# EAGLE library part F-1X08- (library con-headers-jp)
FEMALE HEADER
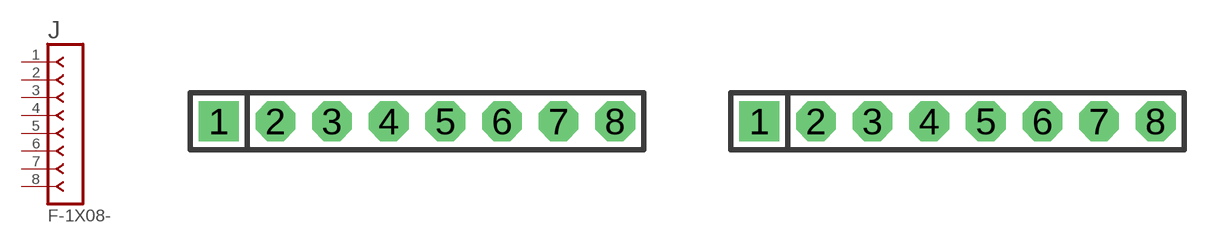
[diagram p22: symbol with the pads of SIP-100-08-40; footprints SIP-100-08-40, SIP-100-08-32]

Designator prefix J

## F-1X08-SIP-100-40  [SIP-100-08-40]
1  1  pas
2  2  pas
3  3  pas
4  4  pas
5  5  pas
6  6  pas
7  7  pas
8  8  pas

## F-1X08-SIP-100-32  [SIP-100-08-32]
Pads as for SIP-100-08-40

## F-1X08-SIP-100-32Y  [SIP-100-08-32Y]
Pads as for SIP-100-08-40

## F-1X08-SIP-100-40Y  [SIP-100-08-40Y]
Pads as for SIP-100-08-40

## F-1X08-KK-4455-B08  [KK-4455-B08]
Pads as for SIP-100-08-40

## F-1X08-KK-4455-C08  [KK-4455-C08]
Pads as for SIP-100-08-40

## F-1X08-KK-4455-A08  [KK-4455-A08]
Pads as for SIP-100-08-40

## F-1X08-050-26  [SIP-.050-1X08]
Pads as for SIP-100-08-40

## Footprint SIP-100-08-40 (pad centres in mm)
SIP Header - 0.1", 40 mil drill
drill 1.016 pad 1.778 square: 1 -8.89,0
drill 1.016 pad 1.778 octagon: 2 -6.35,0; 3 -3.81,0; 4 -1.27,0; 5 1.27,0; 6 3.81,0; 7 6.35,0; 8 8.89,0

## Footprint SIP-100-08-32 (pad centres in mm)
SIP Header - 0.1", 32 mil drill
drill 0.813 pad 1.778 square: 1 -8.89,0
drill 0.813 pad 1.778 octagon: 2 -6.35,0; 3 -3.81,0; 4 -1.27,0; 5 1.27,0; 6 3.81,0; 7 6.35,0; 8 8.89,0

## Footprint SIP-100-08-32Y (pad centres in mm)
SIP Header - 0.1", 32 mil drill
drill 0.813 long: 1 -8.89,0; 2 -6.35,0; 3 -3.81,0; 4 -1.27,0; 5 1.27,0; 6 3.81,0; 7 6.35,0; 8 8.89,0

## Footprint SIP-100-08-40Y (pad centres in mm)
SIP Header - 0.1", 40 mil drill
drill 1.016 long: 1 -8.89,0; 2 -6.35,0; 3 -3.81,0; 4 -1.27,0; 5 1.27,0; 6 3.81,0; 7 6.35,0; 8 8.89,0

## Footprint KK-4455-B08 (pad centres in mm)
KK100 Molex 4455 Series, Vertical, Bottom Entry, 0.1" pitch
drill 1.067 long: 1 -8.89,0; 2 -6.35,0; 3 -3.81,0; 4 -1.27,0; 5 1.27,0; 6 3.81,0; 7 6.35,0; 8 8.89,0
hole 1.778 at -8.89,3.81
hole 1.778 at -6.35,3.81
hole 1.778 at -3.81,3.81
hole 1.778 at -1.27,3.81
hole 1.778 at 1.27,3.81
hole 1.778 at 3.81,3.81
hole 1.778 at 6.35,3.81
hole 1.778 at 8.89,3.81

## Footprint KK-4455-C08 (pad centres in mm)
KK100 Molex 4455 Series, Vertical, Top Entry, 0.1" pitch
drill 1.016 pad 1.778 octagon: 1 -8.89,0; 2 -6.35,0; 3 -3.81,0; 4 -1.27,0; 5 1.27,0; 6 3.81,0; 7 6.35,0; 8 8.89,0
hole 1.778 at -8.89,2.54
hole 1.778 at -6.35,2.54
hole 1.778 at -3.81,2.54
hole 1.778 at -1.27,2.54
hole 1.778 at 1.27,2.54
hole 1.778 at 3.81,2.54
hole 1.778 at 6.35,2.54
hole 1.778 at 8.89,2.54

## Footprint KK-4455-A08 (pad centres in mm)
KK100 Molex 4455 Series, Right Angle, 0.1" pitch
drill 1.067 long: 1 -8.89,0; 2 -6.35,0; 3 -3.81,0; 4 -1.27,0; 5 1.27,0; 6 3.81,0; 7 6.35,0; 8 8.89,0

## Footprint SIP-.050-1X08 (pad centres in mm)
SIP Header - CONN HEADER .050" 8POS PCB GOLD 26 mil drill, 40mil diam Offset centers for friction lock Sullins .050" Male Headers <http://www.sullinscorp.com/catalogs/82_PAGE90-91_.050_MALE_HDR_ST_RA_SMT.pdf>
drill 0.66 pad 1.016 square: 1 0,0.051
drill 0.66 pad 1.016: 2 1.27,-0.051; 3 2.54,0.051; 4 3.81,-0.051; 5 5.08,0.051; 6 6.35,-0.051; 7 7.62,0.051; 8 8.89,-0.051